# EAGLE library part ELM322P (library elm)
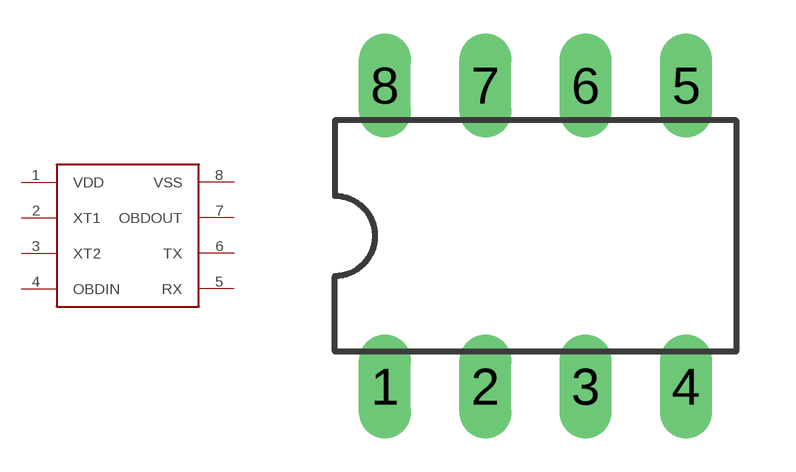
[diagram p2: symbol with the pads of ELM322P; footprint ELM322P]

Designator prefix -

## ELM322P  [ELM322P]
1  VDD  pwr
2  XT1
3  XT2
4  OBDIN
5  RX
6  TX
7  OBDOUT
8  VSS  pwr

## Footprint ELM322P (pad centres in mm)
drill 0.813 long: 1 -5.08,2.54; 2 -2.54,2.54; 3 0,2.54; 4 2.54,2.54; 5 2.54,10.16; 6 0,10.16; 7 -2.54,10.16; 8 -5.08,10.16